# Altium footprint library module.PcbLib: 1 footprints
Each footprint in its own frame and in the unit in brackets; x right, y up, seen from the top. Pads: shape width x height; smd on the part's side, far side on the other; paste and mask are expansions set on the pad; w line width, h text height; cw(c..) or ccw(c..) is an arc to the next point about the centre after c.
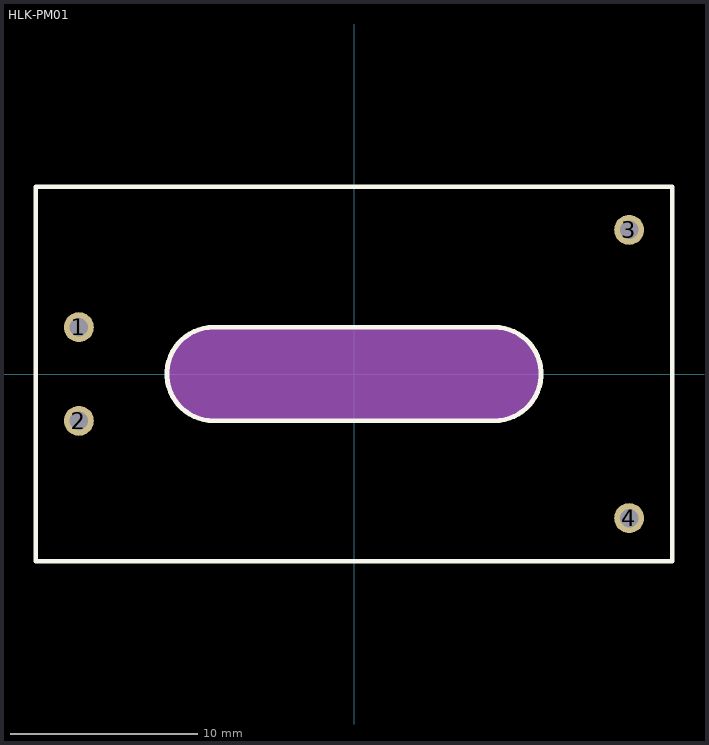
[diagram p0: the footprint, top view; thin cyan lines are the x and y axes]

## HLK-PM01 [mm]
pads (4):
  round 1.6 hole 1: 1(-14.7,2.5) 2(-14.7,-2.5) 3(14.7,7.7) 4(14.7,-7.7)
Top Overlay:
  lines w0.254: -17,-10 -17,10 17,10 17,-10 -17,-10 ; -7.5,-2.5 cw(c-7.5,0) -7.5,2.5 7.5,2.5 cw(c7.5,0) 7.5,-2.5 -7.5,-2.5
Mechanical 1:
  region: -7.5,2.5 7.5,2.5 7.746,2.5 8.229,2.404 8.684,2.215 9.094,1.942 9.442,1.594 9.715,1.184 9.904,0.729 10,0.246 10,0 10,-0.246 9.904,-0.729 9.715,-1.184 9.442,-1.594 9.094,-1.942 8.684,-2.215 8.229,-2.404 7.746,-2.5 7.5,-2.5 -7.5,-2.5 -7.746,-2.5 -8.229,-2.404 -8.684,-2.215 -9.094,-1.942 -9.442,-1.594 -9.715,-1.184 -9.904,-0.729 -10,-0.246 -10,0 -10,0.246 -9.904,0.729 -9.715,1.184 -9.442,1.594 -9.094,1.942 -8.684,2.215 -8.229,2.404 -7.746,2.5
  text "AC" at -13,2 h1.8
  text "AC" at -13,-3 h1.8
  text "-Vo" at 10.5,7 h1.8
  text "+Vo" at 10.5,-8.5 h1.8
3D body "HLK-PM01.step": height 15.1, standoff -5, extent -17,-10.1 17,10.1